# Altium schematic symbol library Mini_USB.SchLib: 1 symbol
Pins are listed as number, name and electrical type; pins without a type are passive.

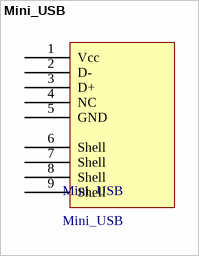
[diagram p0: symbol Mini_USB]

## Mini_USB
designator Mini_USB
footprint Mini_USB
pins: 1 Vcc, 2 D-, 3 D+, 4 NC, 5 GND, 6 Shell, 7 Shell, 8 Shell, 9 Shell